# EAGLE library part 218-112 (library JLB6_Connec)
Wago 12 position CAGE CLAMP slide switch. alternate with 233-412
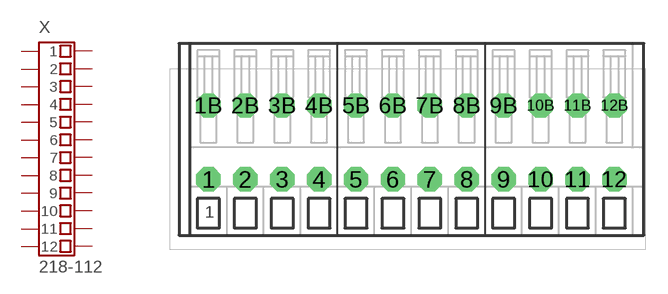
[diagram p61: symbol with the pads of 218-112-ROUND-250; footprint 218-112-ROUND-250]

Designator prefix X

## 218-112  [218-112-ROUND-250]
1  1  pas
1B  B-1  pas
2  2  pas
2B  B-2  pas
3  3  pas
3B  B-3  pas
4  4  pas
4B  B-4  pas
5  5  pas
5B  B-5  pas
6  6  pas
6B  B-6  pas
7  7  pas
7B  B-7  pas
8  8  pas
8B  B-8  pas
9  9  pas
9B  B-9  pas
10  10  pas
10B  B-10  pas
11  11  pas
11B  B-11  pas
12  12  pas
12B  B-12  pas

## Footprint 218-112-ROUND-250 (pad centres in mm)
drill 1.1 octagon: 1 -13.75,-2.5; 1B -13.75,2.5; 2 -11.25,-2.5; 2B -11.25,2.5; 3 -8.75,-2.5; 3B -8.75,2.5; 4 -6.25,-2.5; 4B -6.25,2.5; 5 -3.75,-2.5; 5B -3.75,2.5; 6 -1.25,-2.5; 6B -1.25,2.5; 7 1.25,-2.5; 7B 1.25,2.5; 8 3.75,-2.5; 8B 3.75,2.5; 9 6.25,-2.5; 9B 6.25,2.5; 10 8.75,-2.5; 10B 8.75,2.5; 11 11.25,-2.5; 11B 11.25,2.5; 12 13.75,-2.5; 12B 13.75,2.5